# EAGLE library part 75232 (library GD75232)
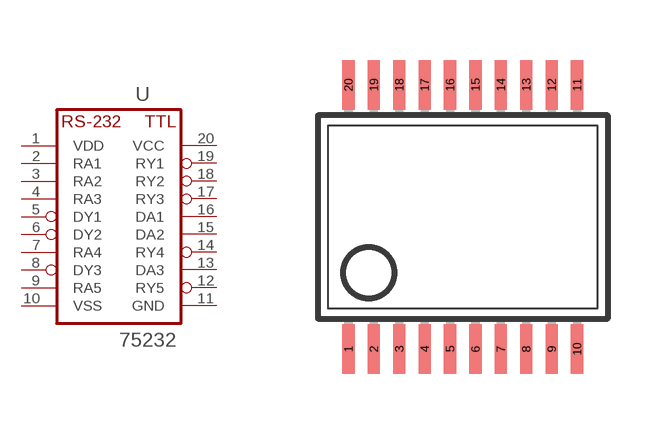
[diagram p0: symbol with the pads of SSOP20D8; footprint SSOP20D8]

Designator prefix -

## 75232DB  [SSOP20D8]
1  VDD  pwr
2  RA1  in
3  RA2  in
4  RA3  in
5  DY1  out
6  DY2  out
7  RA4  in
8  DY3  out
9  RA5  in
10  VSS  pwr
11  GND  pwr
12  RY5  out
13  DA3  in
14  RY4  out
15  DA2  in
16  DA1  out
17  RY3  in
18  RY2  out
19  RY1  out
20  VCC  pwr

## Footprint SSOP20D8 (pad centres in mm)
Plastic Shrink Small Outline Package
smd 0.305 x 1.245: 1 -2.794,-3.353; 2 -2.159,-3.353; 3 -1.524,-3.353; 4 -0.889,-3.353; 5 -0.254,-3.353; 6 0.381,-3.353; 7 1.016,-3.353; 8 1.651,-3.353; 9 2.286,-3.353; 10 2.921,-3.353; 11 2.921,3.251; 12 2.286,3.251; 13 1.651,3.251; 14 1.016,3.251; 15 0.381,3.251; 16 -0.254,3.251; 17 -0.889,3.251; 18 -1.524,3.251; 19 -2.159,3.251; 20 -2.794,3.251